# EAGLE library part TPS40170 (library my_ic)
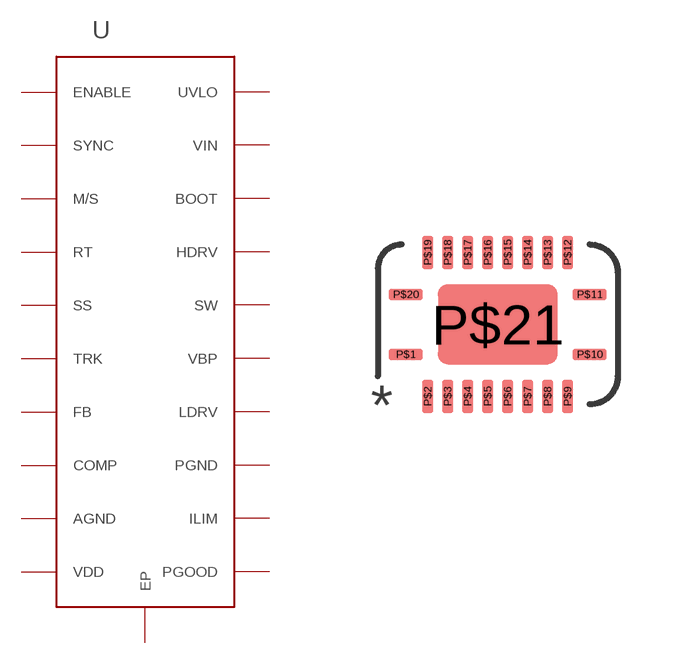
[diagram p19: symbol with the pads of PVQFN-20; footprint PVQFN-20]

Designator prefix -

## TPS40170  [PVQFN-20]
P$1  ENABLE
P$2  SYNC
P$3  M/S
P$4  RT
P$5  SS
P$6  TRK
P$7  FB
P$8  COMP
P$9  AGND
P$10  VDD
P$11  PGOOD
P$12  ILIM
P$13  PGND
P$14  LDRV
P$15  VBP
P$16  SW
P$17  HDRV
P$18  BOOT
P$19  VIN
P$20  UVLO
P$21  EP

## Footprint PVQFN-20 (pad centres in mm)
smd 0.85 x 0.28: P$1 -2.3,-0.75; P$10 2.3,-0.75; P$11 2.3,0.75; P$20 -2.3,0.75
smd 0.28 x 0.85: P$2 -1.75,-1.8; P$3 -1.25,-1.8; P$4 -0.75,-1.8; P$5 -0.25,-1.8; P$6 0.25,-1.8; P$7 0.75,-1.8; P$8 1.25,-1.8; P$9 1.75,-1.8; P$12 1.75,1.8; P$13 1.25,1.8; P$14 0.75,1.8; P$15 0.25,1.8; P$16 -0.25,1.8; P$17 -0.75,1.8; P$18 -1.25,1.8; P$19 -1.75,1.8
smd 3 x 2: P$21 0,0